# Altium schematic symbol library LT1569-7.Schlib: 1 symbol
Pins are listed as number, name and electrical type; pins without a type are passive.

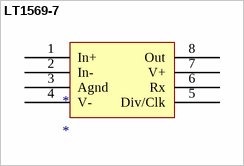
[diagram p0: symbol LT1569-7]

## LT1569-7
designator *
pins: 1 In+, 2 In-, 3 Agnd, 4 V-, 5 Div/Clk, 6 Rx, 7 V+, 8 Out